# EAGLE library part MAX485 (library MAX485)
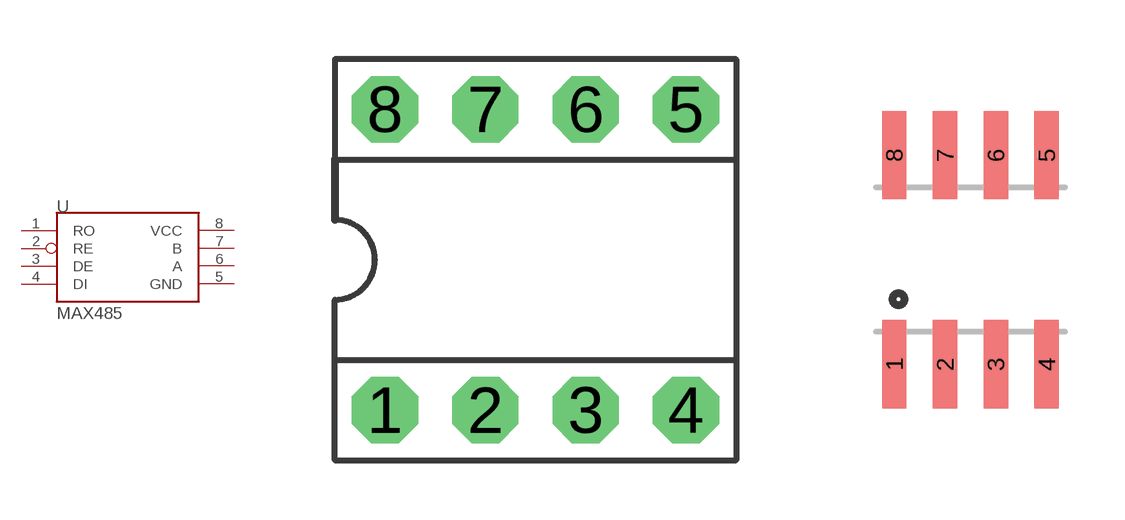
[diagram p0: symbol with the pads of DIL08; footprints DIL08, SO08]

Designator prefix -

## MAX485DIL (AVAILABILITY: Unavailable; MF: Maxim Integrated; MP: MAX485; PACKAGE: SOIC-8 Maxim Integrated; PRICE: None)  [DIL08]
1  RO
2  RE
3  DE
4  DI
5  GND
6  A
7  B
8  VCC

## MAX485 (AVAILABILITY: Unavailable; MF: Maxim Integrated; MP: MAX485; PACKAGE: SOIC-8 Maxim Integrated; PRICE: None)  [SO08]
Pads as for DIL08

## Footprint DIL08 (pad centres in mm)
Dual In Line
drill 0.813 pad 1.676 octagon: 1 -3.81,-3.81; 2 -1.27,-3.81; 3 1.27,-3.81; 4 3.81,-3.81; 5 3.81,3.81; 6 1.27,3.81; 7 -1.27,3.81; 8 -3.81,3.81

## Footprint SO08 (pad centres in mm)
Small Outline Package Fits JEDEC packages (narrow SOIC-8)
smd 0.61 x 2.21: 1 -1.905,-2.616; 2 -0.635,-2.616; 3 0.635,-2.616; 4 1.905,-2.616; 5 1.905,2.616; 6 0.635,2.616; 7 -0.635,2.616; 8 -1.905,2.616